# Altium footprint library 3.3mini.PcbLib: 1 footprints
Each footprint in its own frame and in the unit in brackets; x right, y up, seen from the top. Pads: shape width x height; smd on the part's side, far side on the other; paste and mask are expansions set on the pad; w line width, h text height; cw(c..) or ccw(c..) is an arc to the next point about the centre after c.
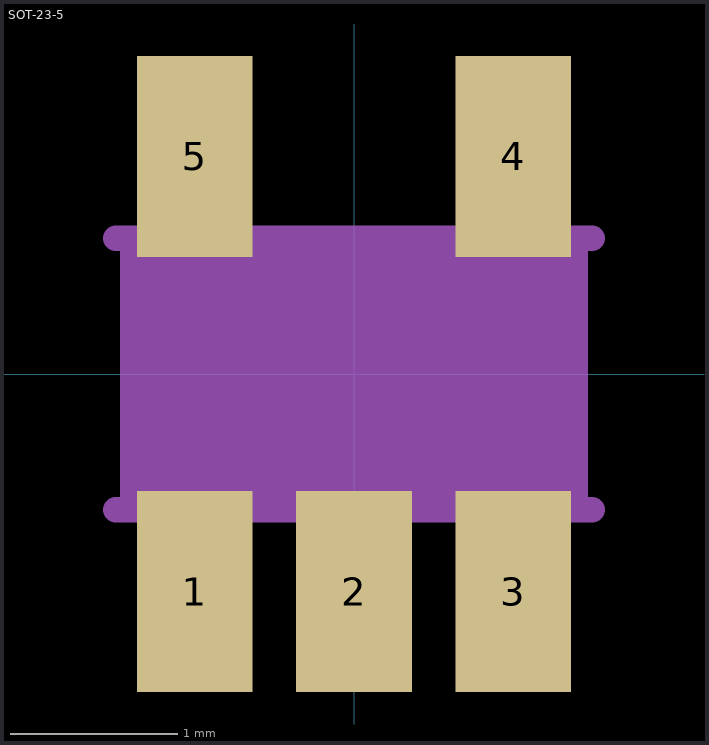
[diagram p0: the footprint, top view; thin cyan lines are the x and y axes]

## SOT-23-5 [mm]
pads (5):
  rect 0.69x1.2 smd: 1(-0.95,-1.3) 2(0,-1.3) 3(0.95,-1.3) 4(0.95,1.3) 5(-0.95,1.3)
Mechanical 13:
  region: -0.7,-1.5 -1.2,-1.5 -1.2,-0.85 -0.7,-0.85
  region: 0.25,-1.502 -0.25,-1.502 -0.25,-0.85 0.25,-0.85
  region: 1.2,-1.502 0.701,-1.502 0.701,-0.85 1.2,-0.85
  region: 1.2,0.851 0.701,0.851 0.701,1.5 1.2,1.5
  region: -0.7,0.85 -1.201,0.85 -1.201,1.5 -0.7,1.5
  lines w0.152: -1.422,-0.81 1.422,-0.81 ; -1.422,0.81 1.422,0.81
Mechanical 15:
  region: 1.397,-0.762 -1.397,-0.762 -1.397,0.762 1.397,0.762